# Altium schematic symbol library INA818IDR.SchLib: 1 symbol
Pins are listed as number, name and electrical type; pins without a type are passive.

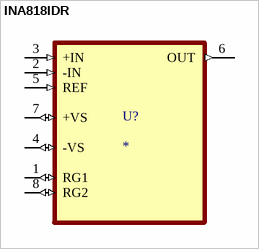
[diagram p0: symbol INA818IDR]

## INA818IDR
designator U?
Low power (350-ÂµA), precision instrumentation amp with Â±60-V overvoltage protection (gain pins 1, 8); MF: Texas Instruments; MP: INA818IDR; SnapEDA_Link: https://www.snapeda.com/parts/INA818IDR/Texas+Instruments/view-part/?ref=snap; Package: SOIC-8 Texas Instruments; Value: *; Check_prices: https://www.snapeda.com/parts/INA818IDR/Texas+Instruments/view-part/?ref=eda
footprint SOIC127P599X175-8N
pins: 1 RG1 (io), 2 -IN (in), 3 +IN (in), 4 -VS (io), 5 REF (in), 6 OUT (out), 7 +VS (io), 8 RG2 (io)